# EAGLE library part DRV8835 (library pan_pic32)
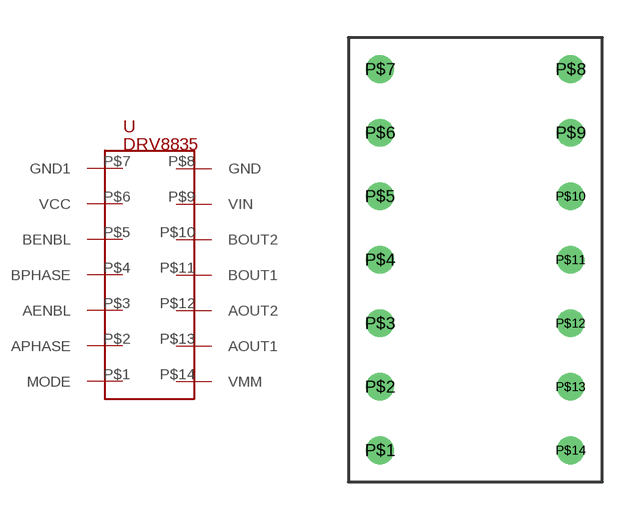
[diagram p8: symbol with the pads of DRV8835; footprint DRV8835]

Designator prefix -

## DRV8835  [DRV8835]
P$1  MODE
P$2  APHASE
P$3  AENBL
P$4  BPHASE
P$5  BENBL
P$6  VCC
P$7  GND1
P$8  GND
P$9  VIN
P$10  BOUT2
P$11  BOUT1
P$12  AOUT2
P$13  AOUT1
P$14  VMM

## Footprint DRV8835 (pad centres in mm)
drill 0.6 pad 1.02: P$1 -3.81,-7.62; P$2 -3.81,-5.08; P$3 -3.81,-2.54; P$4 -3.81,0; P$5 -3.81,2.54; P$6 -3.81,5.08; P$7 -3.81,7.62; P$8 3.81,7.62; P$9 3.81,5.08; P$10 3.81,2.54; P$11 3.81,0; P$12 3.81,-2.54; P$13 3.81,-5.08; P$14 3.81,-7.62